# Altium schematic symbol library THX208_HF-Switching_IC.SchLib: 1 symbol
Pins are listed as number, name and electrical type; pins without a type are passive.

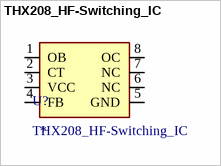
[diagram p0: symbol THX208_HF-Switching_IC]

## THX208_HF-Switching_IC
designator U?
THX208_HF-Switching_IC ROHS; LCSC: *
footprint THX208_HF-Switching_IC
pins: 1 OB, 2 CT, 3 VCC, 4 FB, 5 GND, 6 NC, 7 NC, 8 OC